# Altium footprint library PRTR5V0U2X,215.PcbLib: 3 footprints
Each footprint in its own frame and in the unit in brackets; x right, y up, seen from the top. Pads: shape width x height; smd on the part's side, far side on the other; paste and mask are expansions set on the pad; w line width, h text height; cw(c..) or ccw(c..) is an arc to the next point about the centre after c.
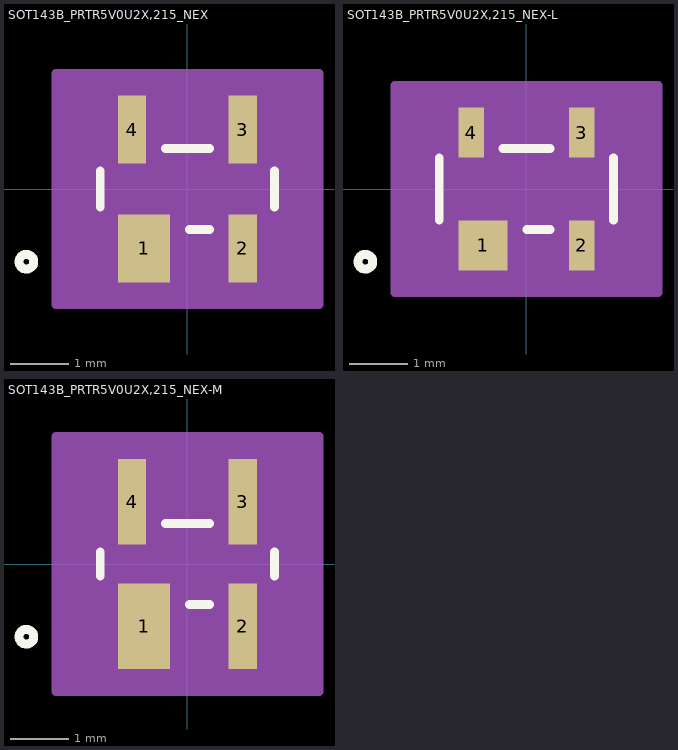
[diagram p0: the footprints below, top view; thin cyan lines are the x and y axes]

## SOT143B_PRTR5V0U2X,215_NEX [mil]
pads (4):
  rect 35x46 smd paste+0 mask+0: 1(-29.4,-40.21)
  rect 19x46 smd paste+0 mask+0: 2(37.4,-40.21) 3(37.4,40.21) 4(-37.4,40.21)
Top Overlay:
  circle w6: c-109,-49.21 r5
  lines w6: -59,-12.19 -59,12.19 ; -14.8,27.5 14.8,27.5 ; 1.2,-27.5 14.8,-27.5 ; 59,-12.19 59,12.19
Mechanical 13:
  circle w0: c-49,-17.5 r5
  lines w1: -59,-27.5 59,-27.5 59,27.5 -59,27.5 -59,-27.5 ; -46.9,-49.21 -46.9,-27.5 -11.9,-27.5 -11.9,-49.21 -46.9,-49.21 ; -46.9,27.5 -27.9,27.5 -27.9,49.21 -46.9,49.21 -46.9,27.5 ; 27.9,-49.21 27.9,-27.5 46.9,-27.5 46.9,-49.21 27.9,-49.21 ; 27.9,27.5 46.9,27.5 46.9,49.21 27.9,49.21 27.9,27.5
Mechanical 15:
  region: -89,-78.21 -89,78.21 89,78.21 89,-78.21
  lines w6: -89,-78.21 89,-78.21 89,78.21 -89,78.21 -89,-78.21
3D body "SOT143B_PRTR5V0U2X215_NEX.step": height 43.11, standoff 0, extent -59.02,-49.21 59.02,49.21

## SOT143B_PRTR5V0U2X,215_NEX-L [mil]
pads (4):
  rect 33x34 smd paste+0 mask+0: 1(-29.4,-38.21)
  rect 17x34 smd paste+0 mask+0: 2(37.4,-38.21) 3(37.4,38.21) 4(-37.4,38.21)
Top Overlay:
  circle w6: c-109,-49.21 r5
  lines w6: -59,-21.01 -59,21.01 ; -15.8,27.5 15.8,27.5 ; 0.2,-27.5 15.8,-27.5 ; 59,-21.01 59,21.01
Mechanical 13:
  circle w0: c-49,-17.5 r5
  lines w1: -59,-27.5 59,-27.5 59,27.5 -59,27.5 -59,-27.5 ; -46.9,-49.21 -46.9,-27.5 -11.9,-27.5 -11.9,-49.21 -46.9,-49.21 ; -46.9,27.5 -27.9,27.5 -27.9,49.21 -46.9,49.21 -46.9,27.5 ; 27.9,-49.21 27.9,-27.5 46.9,-27.5 46.9,-49.21 27.9,-49.21 ; 27.9,27.5 46.9,27.5 46.9,49.21 27.9,49.21 27.9,27.5
Mechanical 15:
  region: -89,-70.21 -89,70.21 89,70.21 89,-70.21
  lines w6: -89,-70.21 89,-70.21 89,70.21 -89,70.21 -89,-70.21
3D body: height 10, standoff 0, extent 0,0 10,10

## SOT143B_PRTR5V0U2X,215_NEX-M [mil]
pads (4):
  rect 35x58 smd paste+0 mask+0: 1(-29.4,-42.21)
  rect 19x58 smd paste+0 mask+0: 2(37.4,-42.21) 3(37.4,42.21) 4(-37.4,42.21)
Top Overlay:
  circle w6: c-109,-49.21 r5
  lines w6: -59,-8.19 -59,8.19 ; -14.8,27.5 14.8,27.5 ; 1.2,-27.5 14.8,-27.5 ; 59,-8.19 59,8.19
Mechanical 13:
  circle w0: c-49,-17.5 r5
  lines w1: -59,-27.5 59,-27.5 59,27.5 -59,27.5 -59,-27.5 ; -46.9,-49.21 -46.9,-27.5 -11.9,-27.5 -11.9,-49.21 -46.9,-49.21 ; -46.9,27.5 -27.9,27.5 -27.9,49.21 -46.9,49.21 -46.9,27.5 ; 27.9,-49.21 27.9,-27.5 46.9,-27.5 46.9,-49.21 27.9,-49.21 ; 27.9,27.5 46.9,27.5 46.9,49.21 27.9,49.21 27.9,27.5
Mechanical 15:
  region: -89,-86.21 -89,86.21 89,86.21 89,-86.21
  lines w6: -89,-86.21 89,-86.21 89,86.21 -89,86.21 -89,-86.21
3D body: height 10, standoff 0, extent 0,0 10,10